# EAGLE library part 1932788-1 (library 1932788-1)
UUSB 2-DIP REVERSE MOUNT
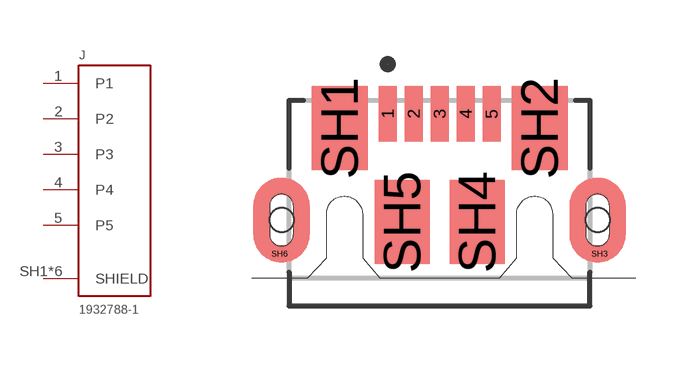
[diagram p0: symbol with the pads of TE_1932788-1; footprint TE_1932788-1]

Designator prefix J

## 1932788-1 (Availability: Unavailable; Centerline_Pitch: .65 mm[.025 in]; Comment: 1932788-1; Description: Conn Micro USB RCP 5 POS 0.65mm Solder RA SMD 5 Terminal 1 Port T/R; MF: TE Connectivity; MP: 1932788-1; Number_of_Positions: 5; Package: DIP-2 TE Connectivity; Price: None; Product_Type: Connector; TE_purchase_URL: https://www.te.com/usa-en/product-1932788-1.html?te_bu=Cor&te_type=disp&te_campaign=seda_glo_cor-seda-global-disp-prtnr-fy19-seda-model-bom-cta_sma-317_1&elqCampaignId=32493)  [TE_1932788-1]
1  P1  pas
2  P2  pas
3  P3  pas
4  P4  pas
5  P5  pas
SH1  SHIELD  pas
SH2  SHIELD  pas
SH3  SHIELD  pas
SH4  SHIELD  pas
SH5  SHIELD  pas
SH6  SHIELD  pas

## Footprint TE_1932788-1 (pad centres in mm)
smd 0.45 x 1.38: 1 -1.3,0; 2 -0.65,0; 3 0,0; 4 0.65,0; 5 1.3,0
smd 1.4 x 2.1: SH1 -2.5,-0.36; SH2 2.5,-0.36
smd 0.1 x 0.1: SH3 4,-3.5; SH6 -4,-3.5
smd 1.375 x 2.1: SH4 0.938,-2.71; SH5 -0.938,-2.71
hole 0.6 at -3.95,-2.66
hole 0.6 at 3.95,-2.66